# EAGLE library part HD44780LCD (library Dek)
HD44780 LCD Standard character type LCDs, available in sizes from 8x1 to 40x4!
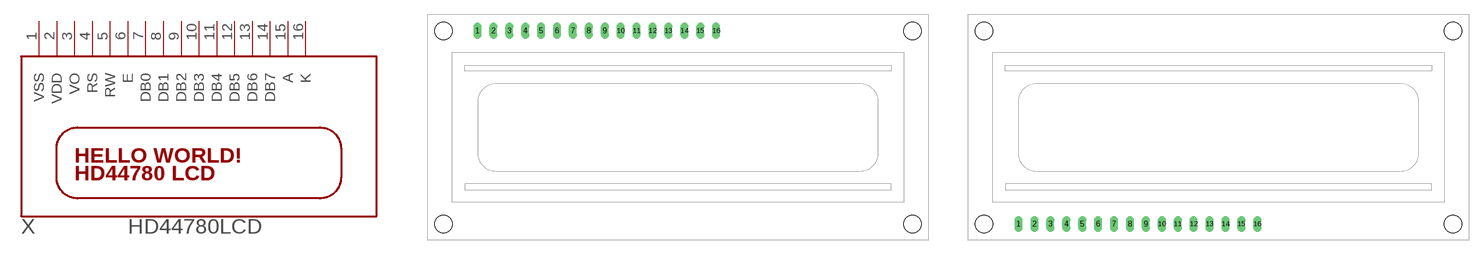
[diagram p9: symbol with the pads of LCD1602-TOPMOUNT; footprints LCD1602-TOPMOUNT, LCD1602-BOTTOMMOUNT]

Designator prefix X

## HD44780LCDTOP_MOUNT  [LCD1602-TOPMOUNT]
1  VSS  sup
2  VDD  sup
3  VO  in
4  RS  in
5  RW  in
6  E  in
7  DB0
8  DB1
9  DB2
10  DB3
11  DB4
12  DB5
13  DB6
14  DB7
15  A  in
16  K  in

## HD44780LCDBOTTOM_MOUNT  [LCD1602-BOTTOMMOUNT]
Pads as for LCD1602-TOPMOUNT

## Footprint LCD1602-TOPMOUNT (pad centres in mm)
drill 0.8 long: 1 8,33.46; 2 10.54,33.46; 3 13.08,33.46; 4 15.62,33.46; 5 18.16,33.46; 6 20.7,33.46; 7 23.24,33.46; 8 25.78,33.46; 9 28.32,33.46; 10 30.86,33.46; 11 33.4,33.46; 12 35.94,33.46; 13 38.48,33.46; 14 41.02,33.46; 15 43.56,33.46; 16 46.1,33.46
hole 2.8 at 2.54,2.54
hole 2.8 at 2.54,33.46
hole 2.8 at 77.46,33.46
hole 2.8 at 77.46,2.54

## Footprint LCD1602-BOTTOMMOUNT (pad centres in mm)
drill 0.8 long: 1 8.1,2.56; 2 10.64,2.56; 3 13.18,2.56; 4 15.72,2.56; 5 18.26,2.56; 6 20.8,2.56; 7 23.34,2.56; 8 25.88,2.56; 9 28.42,2.56; 10 30.96,2.56; 11 33.5,2.56; 12 36.04,2.56; 13 38.58,2.56; 14 41.12,2.56; 15 43.66,2.56; 16 46.2,2.56
hole 2.8 at 2.54,2.54
hole 2.8 at 2.54,33.46
hole 2.8 at 77.46,33.46
hole 2.8 at 77.46,2.54